# EAGLE library part SN74LVC8T245 (library PP_DigitalIC)
Manufacturer Part #: SN74LVC8T245 Manufacturer: Texas Instruments Description: Translation - Voltage Levels 8-Bit Dual-Supply Bus Xcvr
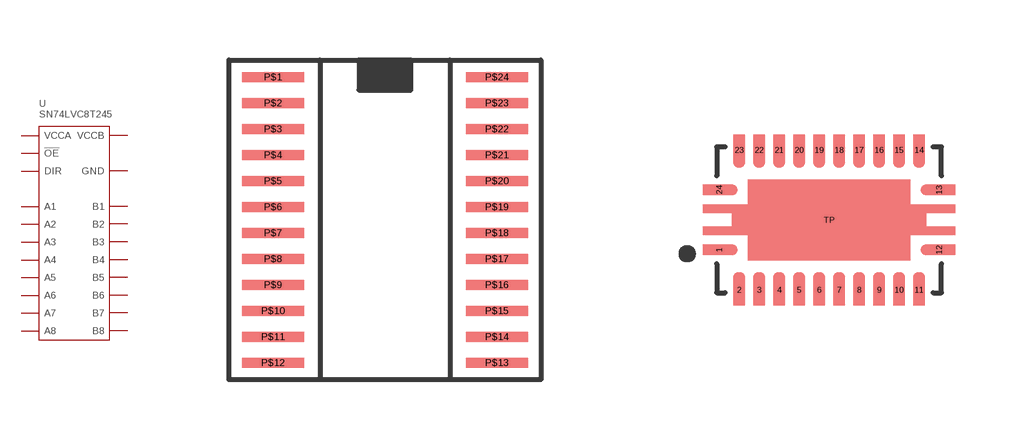
[diagram p24: symbol with the pads of SN74LVC8T245_TTSOP-24; footprints SN74LVC8T245_TTSOP-24, SN74LVC8T245_VQFN-24]

Designator prefix U

## SN74LVC8T245_PWR  [SN74LVC8T245_TTSOP-24]
P$1  VCCA
P$2  DIR
P$3  A1
P$4  A2
P$5  A3
P$6  A4
P$7  A5
P$8  A6
P$9  A7
P$10  A8
P$11  GND
P$12  GND
P$13  GND
P$14  B8
P$15  B7
P$16  B6
P$17  B5
P$18  B4
P$19  B3
P$20  B2
P$21  B1
P$22  !OE
P$23  VCCB
P$24  VCCB

## SN74LVC8T245_RHL  [SN74LVC8T245_VQFN-24]
1  VCCA
2  DIR
3  A1
4  A2
5  A3
6  A4
7  A5
8  A6
9  A7
10  A8
11  GND
12  GND
13  GND
14  B8
15  B7
16  B6
17  B5
18  B4
19  B3
20  B2
21  B1
22  !OE
23  VCCB
24  VCCB

## Footprint SN74LVC8T245_TTSOP-24 (pad centres in mm)
smd 1.55 x 0.25: P$1 -2.8,3.575; P$2 -2.8,2.925; P$3 -2.8,2.275; P$4 -2.8,1.625; P$5 -2.8,0.975; P$6 -2.8,0.325; P$7 -2.8,-0.325; P$8 -2.8,-0.975; P$9 -2.8,-1.625; P$10 -2.8,-2.275; P$11 -2.8,-2.925; P$12 -2.8,-3.575; P$13 2.8,-3.575; P$14 2.8,-2.925; P$15 2.8,-2.275; P$16 2.8,-1.625; P$17 2.8,-0.975; P$18 2.8,-0.325; P$19 2.8,0.325; P$20 2.8,0.975; P$21 2.8,1.625; P$22 2.8,2.275; P$23 2.8,2.925; P$24 2.8,3.575

## Footprint SN74LVC8T245_VQFN-24 (pad centres in mm)
smd 0.2 x 0.2: 1 -2.75,-0.75; 2 -2.25,-1.75; 3 -1.75,-1.75; 4 -1.25,-1.75; 5 -0.75,-1.75; 6 -0.25,-1.75; 7 0.25,-1.75; 8 0.75,-1.75; 9 1.25,-1.75; 10 1.75,-1.75; 11 2.25,-1.75; 12 2.75,-0.75; 13 2.75,0.75; 14 2.25,1.75; 15 1.75,1.75; 16 1.25,1.75; 17 0.75,1.75; 18 0.25,1.75; 19 -0.25,1.75; 20 -0.75,1.75; 21 -1.25,1.75; 22 -1.75,1.75; 23 -2.25,1.75; 24 -2.75,0.75; TP 0,0